# Altium schematic symbol library Sch_Winsen.SchLib: 1 symbol
Pins are listed as number, name and electrical type; pins without a type are passive.

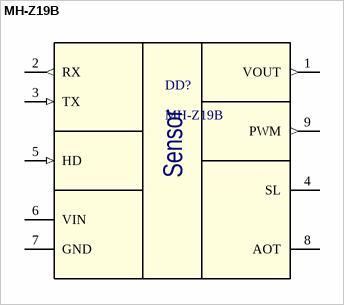
[diagram p0: symbol MH-Z19B]

## MH-Z19B
designator DD?
CO2 sensor; Manufacturer: Winsen; Part Number: MH-Z19B
pins: 1 VOUT (out), 2 RX (out), 3 TX (in), 4 SL, 5 HD (in), 6 VIN (power), 7 GND (power), 8 AOT, 9 PWM (out)
text: Sensor